# EAGLE library part SFV30R-2STE1LF (library FCI_By_element14_Batch_1)
FFC/FPC CONNECTOR, RECEPTACLE 30POS 1ROW
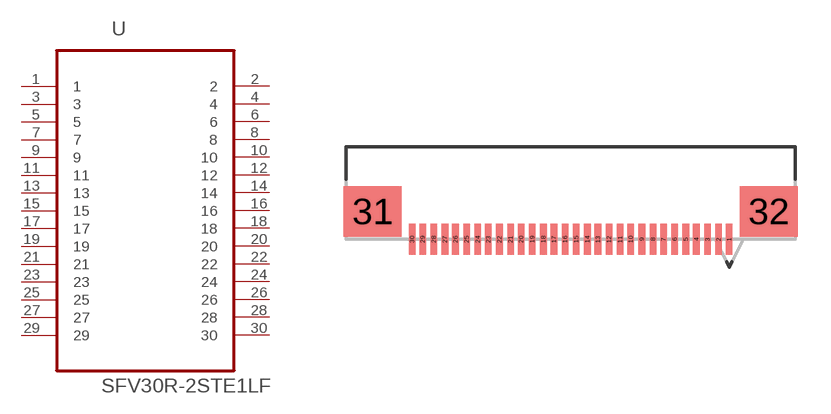
[diagram p57: symbol with the pads of FCI_SFV30R-2STE1LF; footprint FCI_SFV30R-2STE1LF]

Designator prefix U

## SFV30R-2STE1LF (MPN: SFV30R-2STE1LF; OC_FARNELL: -; OC_NEWARK: 62K5586; PACKAGE: CONNECTOR-30POS; SUPPLIER: FCI)  [FCI_SFV30R-2STE1LF]
1  1  pas
2  2  pas
3  3  pas
4  4  pas
5  5  pas
6  6  pas
7  7  pas
8  8  pas
9  9  pas
10  10  pas
11  11  pas
12  12  pas
13  13  pas
14  14  pas
15  15  pas
16  16  pas
17  17  pas
18  18  pas
19  19  pas
20  20  pas
21  21  pas
22  22  pas
23  23  pas
24  24  pas
25  25  pas
26  26  pas
27  27  pas
28  28  pas
29  29  pas
30  30  pas

## Footprint FCI_SFV30R-2STE1LF (pad centres in mm)
smd 0.305 x 1.397: 1 7.239,2.083; 2 6.756,2.083; 3 6.248,2.083; 4 5.74,2.083; 5 5.258,2.083; 6 4.75,2.083; 7 4.242,2.083; 8 3.759,2.083; 9 3.251,2.083; 10 2.743,2.083; 11 2.261,2.083; 12 1.753,2.083; 13 1.245,2.083; 14 0.762,2.083; 15 0.254,2.083; 16 -0.254,2.083; 17 -0.762,2.083; 18 -1.245,2.083; 19 -1.753,2.083; 20 -2.261,2.083; 21 -2.743,2.083; 22 -3.251,2.083; 23 -3.759,2.083; 24 -4.242,2.083; 25 -4.75,2.083; 26 -5.258,2.083; 27 -5.74,2.083; 28 -6.248,2.083; 29 -6.756,2.083; 30 -7.239,2.083
smd 2.642 x 2.311: 31 -9.042,3.353; 32 9.042,3.353